# Altium schematic symbol library SCH - POWER - SWITCHMODE - TI TPS60303_DGS_10.SchLib: 1 symbol
Pins are listed as number, name and electrical type; pins without a type are passive.

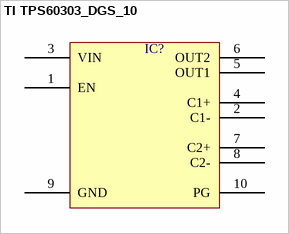
[diagram p0: symbol TI TPS60303_DGS_10]

## TI TPS60303_DGS_10
designator IC?  (value not drawn)
pins: 1 EN, 2 C1-, 3 VIN, 4 C1+, 5 OUT1, 6 OUT2, 7 C2+, 8 C2-, 9 GND, 10 PG